# EAGLE library part HEADER_5X2_0.05IN (library NMX_ControllerSide_v1-3)
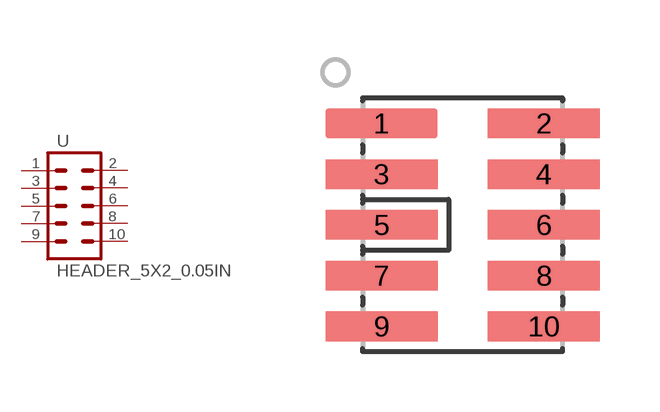
[diagram p3: symbol with the pads of HEADER_5X2_0.05IN; footprint HEADER_5X2_0.05IN]

Designator prefix -

## HEADER_5X2_0.05IN  [HEADER_5X2_0.05IN]
1  1  pas
2  2  pas
3  3  pas
4  4  pas
5  5  pas
6  6  pas
7  7  pas
8  8  pas
9  9  pas
10  10  pas

## Footprint HEADER_5X2_0.05IN (pad centres in mm)
smd 2.8 x 0.74: 1 -2.03,2.54; 2 2.03,2.54; 3 -2.03,1.27; 4 2.03,1.27; 5 -2.03,0; 6 2.03,0; 7 -2.03,-1.27; 8 2.03,-1.27; 9 -2.03,-2.54; 10 2.03,-2.54